# Altium integrated library RES_5W_VERT.IntLib: 1 symbol
Pins are listed as number, name and electrical type; pins without a type are passive.

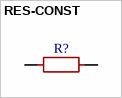
[diagram p0: symbol RES-CONST]

## RES-CONST
designator R?
footprint RES_5W_VERT
pins: 1, 2